# Altium schematic symbol library MPU6050.SchLib: 1 symbol
Pins are listed as number, name and electrical type; pins without a type are passive.

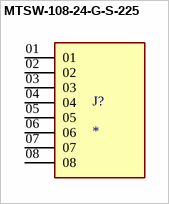
[diagram p0: symbol MTSW-108-24-G-S-225]

## MTSW-108-24-G-S-225
designator J?
MP: MTSW-108-24-G-S-225; Availability: Unavailable; Package: None; Value: *; Price: None
footprint SAMTEC_MTSW-108-24-G-S-225
pins: 01, 02, 03, 04, 05, 06, 07, 08